# EAGLE library part PH-11 (library con-jst-ph)
HEADER
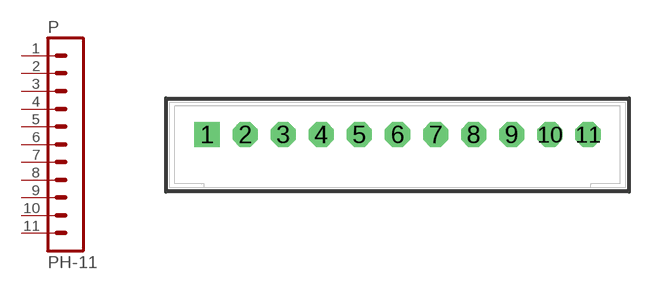
[diagram p5: symbol with the pads of B11B-PH-K; footprint B11B-PH-K]

Designator prefix P

## PH-11  [B11B-PH-K]
1  1  pas
2  2  pas
3  3  pas
4  4  pas
5  5  pas
6  6  pas
7  7  pas
8  8  pas
9  9  pas
10  10  pas
11  11  pas

## Footprint B11B-PH-K (pad centres in mm)
HEADER
drill 0.813 square: 1 -10,0
drill 0.813 octagon: 2 -8,0; 3 -6,0; 4 -4,0; 5 -2,0; 6 0,0; 7 2,0; 8 4,0; 9 6,0; 10 8,0; 11 10,0